# Altium schematic symbol library motor_drivers.SchLib: 6 symbols
Pins are listed as number, name and electrical type; pins without a type are passive.

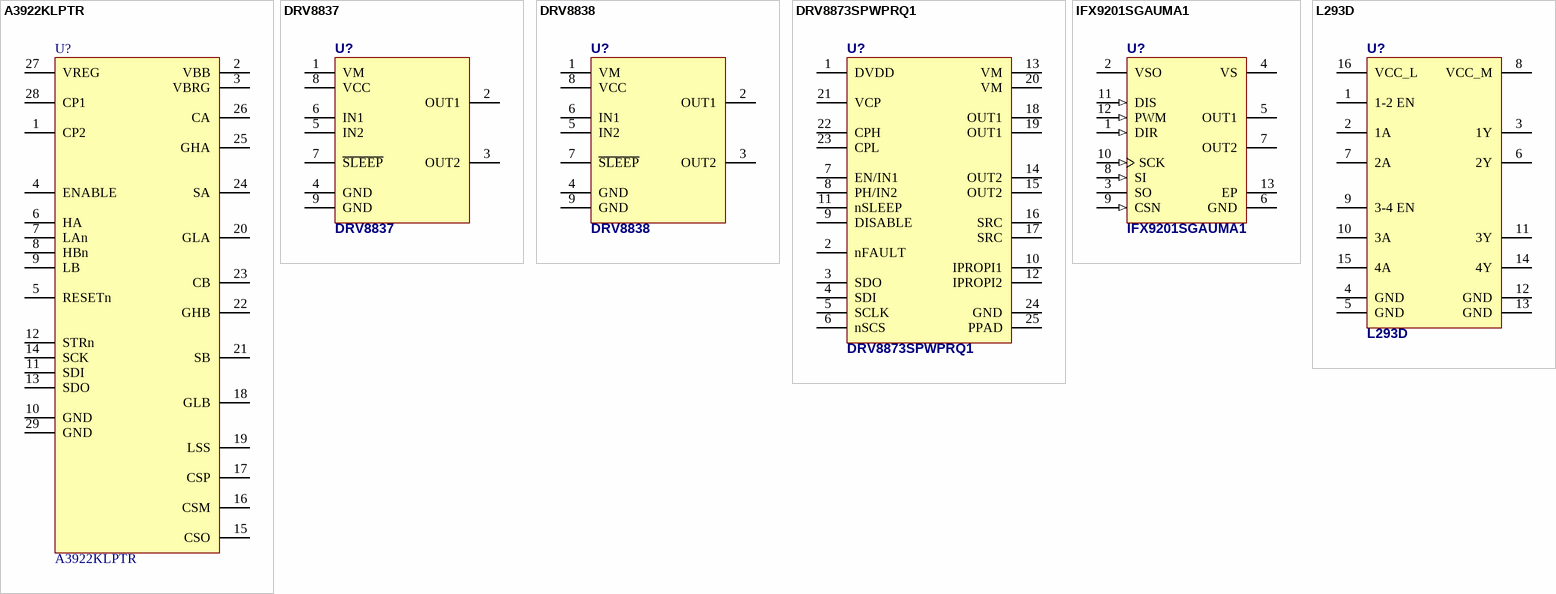
[diagram p0: symbols A3922KLPTR to L293D]

## A3922KLPTR
designator U?
Automotive, Full-Bridge MOSFET Driver
footprint HTTOP28
pins: 1 CP2, 2 VBB, 3 VBRG, 4 ENABLE, 5 RESETn, 6 HA, 7 LAn, 8 HBn, 9 LB, 10 GND, 11 SDI, 12 STRn, 13 SDO, 14 SCK, 15 CSO, 16 CSM, 17 CSP, 18 GLB, 19 LSS, 20 GLA, 21 SB, 22 GHB, 23 CB, 24 SA, 25 GHA, 26 CA, 27 VREG, 28 CP1, 29 GND

## DRV8837
designator U?
Low-Voltage H-Bridge Driver; Published: 14-Sep-2006; Supplier 1: Farnell; Supplier 2: Farnell; Supplier 3: Farnell; Supplier 4: Farnell; Supplier Part Number 1: 2144239; Supplier Part Number 2: 2347370; Supplier Part Number 3: 2435742; Supplier Part Number 4: 2764797
footprint WSON8 (DSG8-1600X900TP) (SON, 8-Leads, Body 2x2mm, Pitch 0.5mm, Thermal Pad 1.6x0.9mm, TI Recommended)
pins: 1 VM, 2 OUT1, 3 OUT2, 4 GND, 5 IN2, 6 IN1, 7 ~{SLEEP}, 8 VCC, 9 GND

## DRV8838
designator U?
Low-Voltage H-Bridge Driver; Published: 14-Sep-2006; Supplier 1: Farnell; Supplier 2: Farnell; Supplier Part Number 1: 2420232; Supplier Part Number 2: 2542736
footprint WSON8 (DSG8-1600X900TP) (SON, 8-Leads, Body 2x2mm, Pitch 0.5mm, Thermal Pad 1.6x0.9mm, TI Recommended)
pins: 1 VM, 2 OUT1, 3 OUT2, 4 GND, 5 IN2, 6 IN1, 7 ~{SLEEP}, 8 VCC, 9 GND

## DRV8873SPWPRQ1
designator U?
Automotive H-Bridge Motor Driver
footprint HTTOP24 (PowerPAD TSSOP)
pins: 1 DVDD, 2 nFAULT, 3 SDO, 4 SDI, 5 SCLK, 6 nSCS, 7 EN/IN1, 8 PH/IN2, 9 DISABLE, 10 IPROPI1, 11 nSLEEP, 12 IPROPI2, 13 VM, 14 OUT2, 15 OUT2, 16 SRC, 17 SRC, 18 OUT1, 19 OUT1, 20 VM, 21 VCP, 22 CPH, 23 CPL, 24 GND, 25 PPAD

## IFX9201SGAUMA1
designator U?
Driver; IMC, motor controller; SPI; 6A; Channels: 2; 5÷36V; 20kHz; Supplier 1: TME; Supplier 2: Farnell; Supplier Part Number 1: IFX9201SGAUMA1; Supplier Part Number 2: 2710011
footprint INF-PG-DSO-12-17_M (SOP, 12-Leads, Body 7.6x6.5mm, Pitch 1mm, Thermal Pad 7.9x4.3mm, IPC Low Density)
pins: 1 DIR (in) "Direction input to define direction of the motor current", 2 VSO (power) "Supply pin for SO output. Connect to 5V or 3.3V depending on desired logic level", 3 SO (hiz) "SPI serial output", 4 VS (power) "Supply voltage", 5 OUT1 (hiz) "Output 1", 6 GND (power) "Ground", 7 OUT2 (hiz) "Output 2", 8 SI (in) "SPI serial input", 9 CSN (in) "SPI chip select (low active)", 10 SCK (in) "SPI clock input", 11 DIS (in) "Disable. Disables the outputs (all MOSFETS off)", 12 PWM (in) "Pulse width modulation input", 13 EP

## L293D
designator U?
Quadruple Half-H Bridge Driver; Supplier 1: Farnell; Supplier 2: Farnell; Supplier 3: Farnell; Supplier 4: TME; Supplier Part Number 1: 1470423; Supplier Part Number 2: 2126601; Supplier Part Number 3: 9589619; Supplier Part Number 4: L293DNE
footprint DIP16
pins: 1 1-2 EN, 2 1A, 3 1Y, 4 GND, 5 GND, 6 2Y, 7 2A, 8 VCC_M, 9 3-4 EN, 10 3A, 11 3Y, 12 GND, 13 GND, 14 4Y, 15 4A, 16 VCC_L